# EAGLE library part S25FL127SABMFI101 (library flash_memory)
EEPROM 4 Mbit SPI Serial Flash7
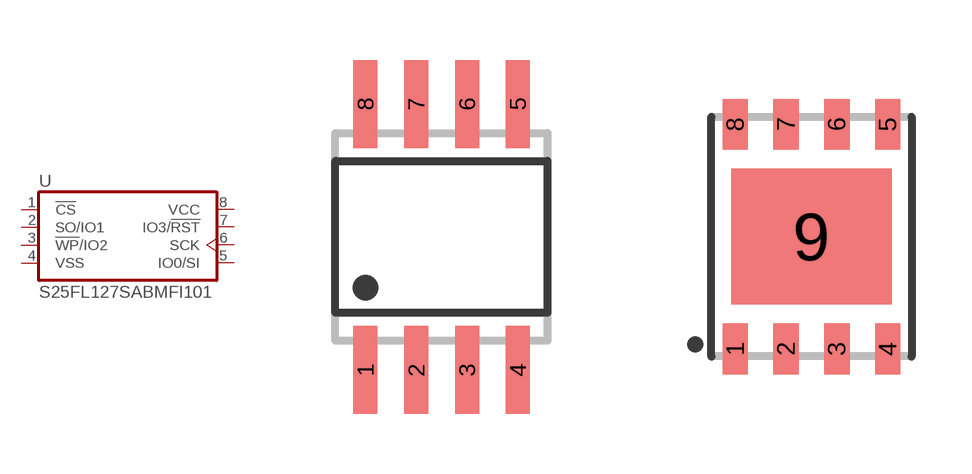
[diagram p0: symbol with the pads of SO08-S2A; footprints SO08-S2A, WSON8]

Designator prefix U

## S25FL127SABMFI101  [SO08-S2A]
1  !CS!  in
2  SO/IO1
3  !WP!/IO2
4  VSS  pwr
5  IO0/SI
6  SCK  in
7  IO3/!RST!
8  VCC  pwr

## S25FL127SABMFI101WSON  [WSON8]
Pads as for SO08-S2A

## S25FL127SABMFI101SO08-209MIL  [SO08-S2A]
Pads as for SO08-S2A

## Footprint SO08-S2A (pad centres in mm)
SMALL OUTLINE INTEGRATED CIRCUIT 200 MIL BODY WIDTH (5.2MM X 8MM)
smd 0.6 x 2.2: 1 -1.905,-3.33; 2 -0.635,-3.33; 3 0.635,-3.33; 4 1.905,-3.33; 5 1.905,3.33; 6 0.635,3.33; 7 -0.635,3.33; 8 -1.905,3.33

## Footprint WSON8 (pad centres in mm)
8-WSON 8-Contact Very-very-thin Small Outline No-lead body 6.00 x 5.00 mm
smd 0.635 x 1.27: 1 -1.905,-2.81; 2 -0.635,-2.81; 3 0.635,-2.81; 4 1.905,-2.81; 5 1.905,2.81; 6 0.635,2.81; 7 -0.635,2.81; 8 -1.905,2.81
smd 4 x 3.4: 9 0,0